# EAGLE library part TCA0372DW (library TCA0372DW)
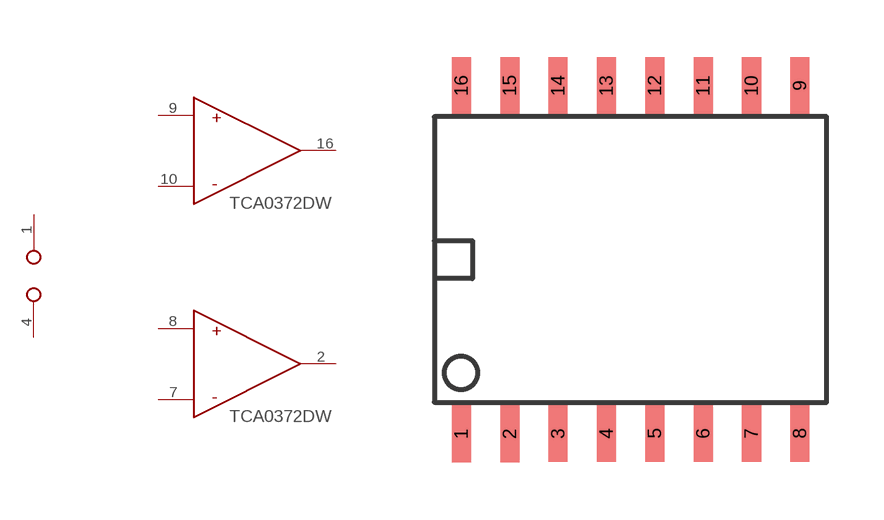
[diagram p0: symbol with the pads of TCA0372DW; footprint TCA0372DW]

Designator prefix -; gates G$1=PSUPLY G$2=TCA0372DW G$3=TCA0372DW

## TCA0372DW  [TCA0372DW]
1  G$1:VCC  pwr
2  G$3:OUT  out
4  G$1:GND  pwr
7  G$3:IN-  in
8  G$3:IN+  in
9  G$2:IN+  in
10  G$2:IN-  in
16  G$2:OUT  out

## Footprint TCA0372DW (pad centres in mm)
smd 0.5 x 1.5: 1 0.71,-0.83; 2 1.98,-0.83; 3 3.25,-0.82; 4 4.52,-0.82; 5 5.79,-0.82; 6 7.06,-0.82; 7 8.33,-0.82; 8 9.6,-0.82; 9 9.6,8.32; 10 8.33,8.32; 11 7.06,8.32; 12 5.79,8.32; 13 4.52,8.32; 14 3.25,8.32; 15 1.98,8.32; 16 0.71,8.32